# EAGLE library part 28FXXXP30 (library memory-intel)
FLASH Intel StrataFlash® Embedded Memory (P30) Family 64, 128, 256, 512 - M bit
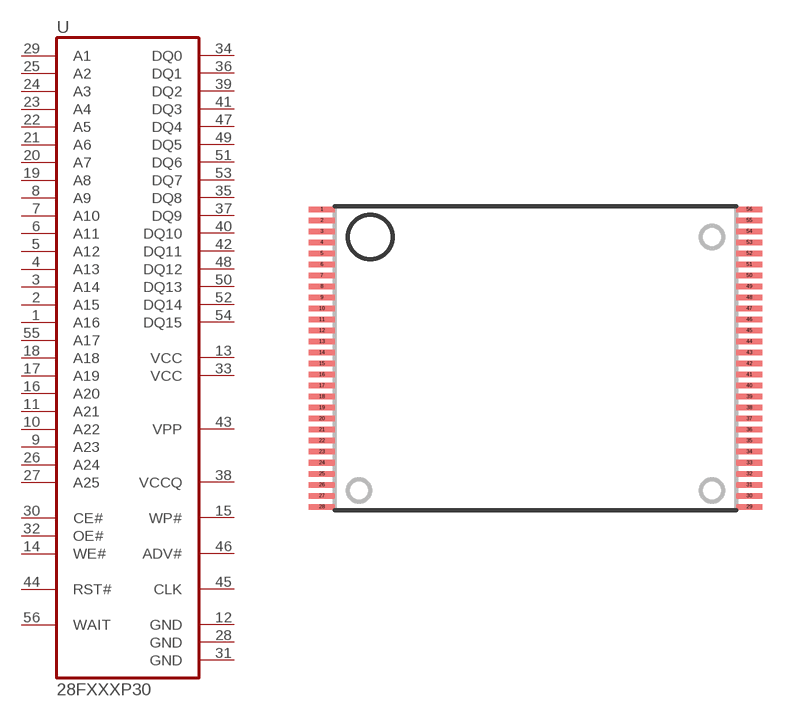
[diagram p1: symbol with the pads of TSOP56; footprint TSOP56]

Designator prefix U

## 28FXXXP30  [TSOP56]
1  A16  in
2  A15  in
3  A14  in
4  A13  in
5  A12  in
6  A11  in
7  A10  in
8  A9  in
9  A23  in
10  A22  in
11  A21  in
12  GND  pwr
13  VCC  pwr
14  WE#  in
15  WP#  in
16  A20  in
17  A19  in
18  A18  in
19  A8  in
20  A7  in
21  A6  in
22  A5  in
23  A4  in
24  A3  in
25  A2  in
26  A24  in
27  A25  in
28  GND  pwr
29  A1  in
30  CE#  in
31  GND  pwr
32  OE#  in
33  VCC  pwr
34  DQ0
35  DQ8
36  DQ1
37  DQ9
38  VCCQ  pwr
39  DQ2
40  DQ10
41  DQ3
42  DQ11
43  VPP  pwr
44  RST#  in
45  CLK  in
46  ADV#  in
47  DQ4
48  DQ12
49  DQ5
50  DQ13
51  DQ6
52  DQ14
53  DQ7
54  DQ15
55  A17  in
56  WAIT  out

## Footprint TSOP56 (pad centres in mm)
Thin Small Outline Package
smd 1.2 x 0.25: 1 -9.7,6.75; 2 -9.7,6.25; 3 -9.7,5.75; 4 -9.7,5.25; 5 -9.7,4.75; 6 -9.7,4.25; 7 -9.7,3.75; 8 -9.7,3.25; 9 -9.7,2.75; 10 -9.7,2.25; 11 -9.7,1.75; 12 -9.7,1.25; 13 -9.7,0.75; 14 -9.7,0.25; 15 -9.7,-0.25; 16 -9.7,-0.75; 17 -9.7,-1.25; 18 -9.7,-1.75; 19 -9.7,-2.25; 20 -9.7,-2.75; 21 -9.7,-3.25; 22 -9.7,-3.75; 23 -9.7,-4.25; 24 -9.7,-4.75; 25 -9.7,-5.25; 26 -9.7,-5.75; 27 -9.7,-6.25; 28 -9.7,-6.75; 29 9.7,-6.75; 30 9.7,-6.25; 31 9.7,-5.75; 32 9.7,-5.25; 33 9.7,-4.75; 34 9.7,-4.25; 35 9.7,-3.75; 36 9.7,-3.25; 37 9.7,-2.75; 38 9.7,-2.25; 39 9.7,-1.75; 40 9.7,-1.25; 41 9.7,-0.75; 42 9.7,-0.25; 43 9.7,0.25; 44 9.7,0.75; 45 9.7,1.25; 46 9.7,1.75; 47 9.7,2.25; 48 9.7,2.75; 49 9.7,3.25; 50 9.7,3.75; 51 9.7,4.25; 52 9.7,4.75; 53 9.7,5.25; 54 9.7,5.75; 55 9.7,6.25; 56 9.7,6.75